# Altium schematic symbol library coax-connector.SchLib: 1 symbol
Pins are listed as number, name and electrical type; pins without a type are passive.

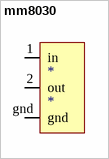
[diagram p0: symbol mm8030]

## mm8030
designator *
footprint MM8030 (Murrata coax connector)
footprint MM8830
pins: 1 in, 2 out, gnd